# EAGLE library part STM32F439AIH6 (library circuit_tree)
IC
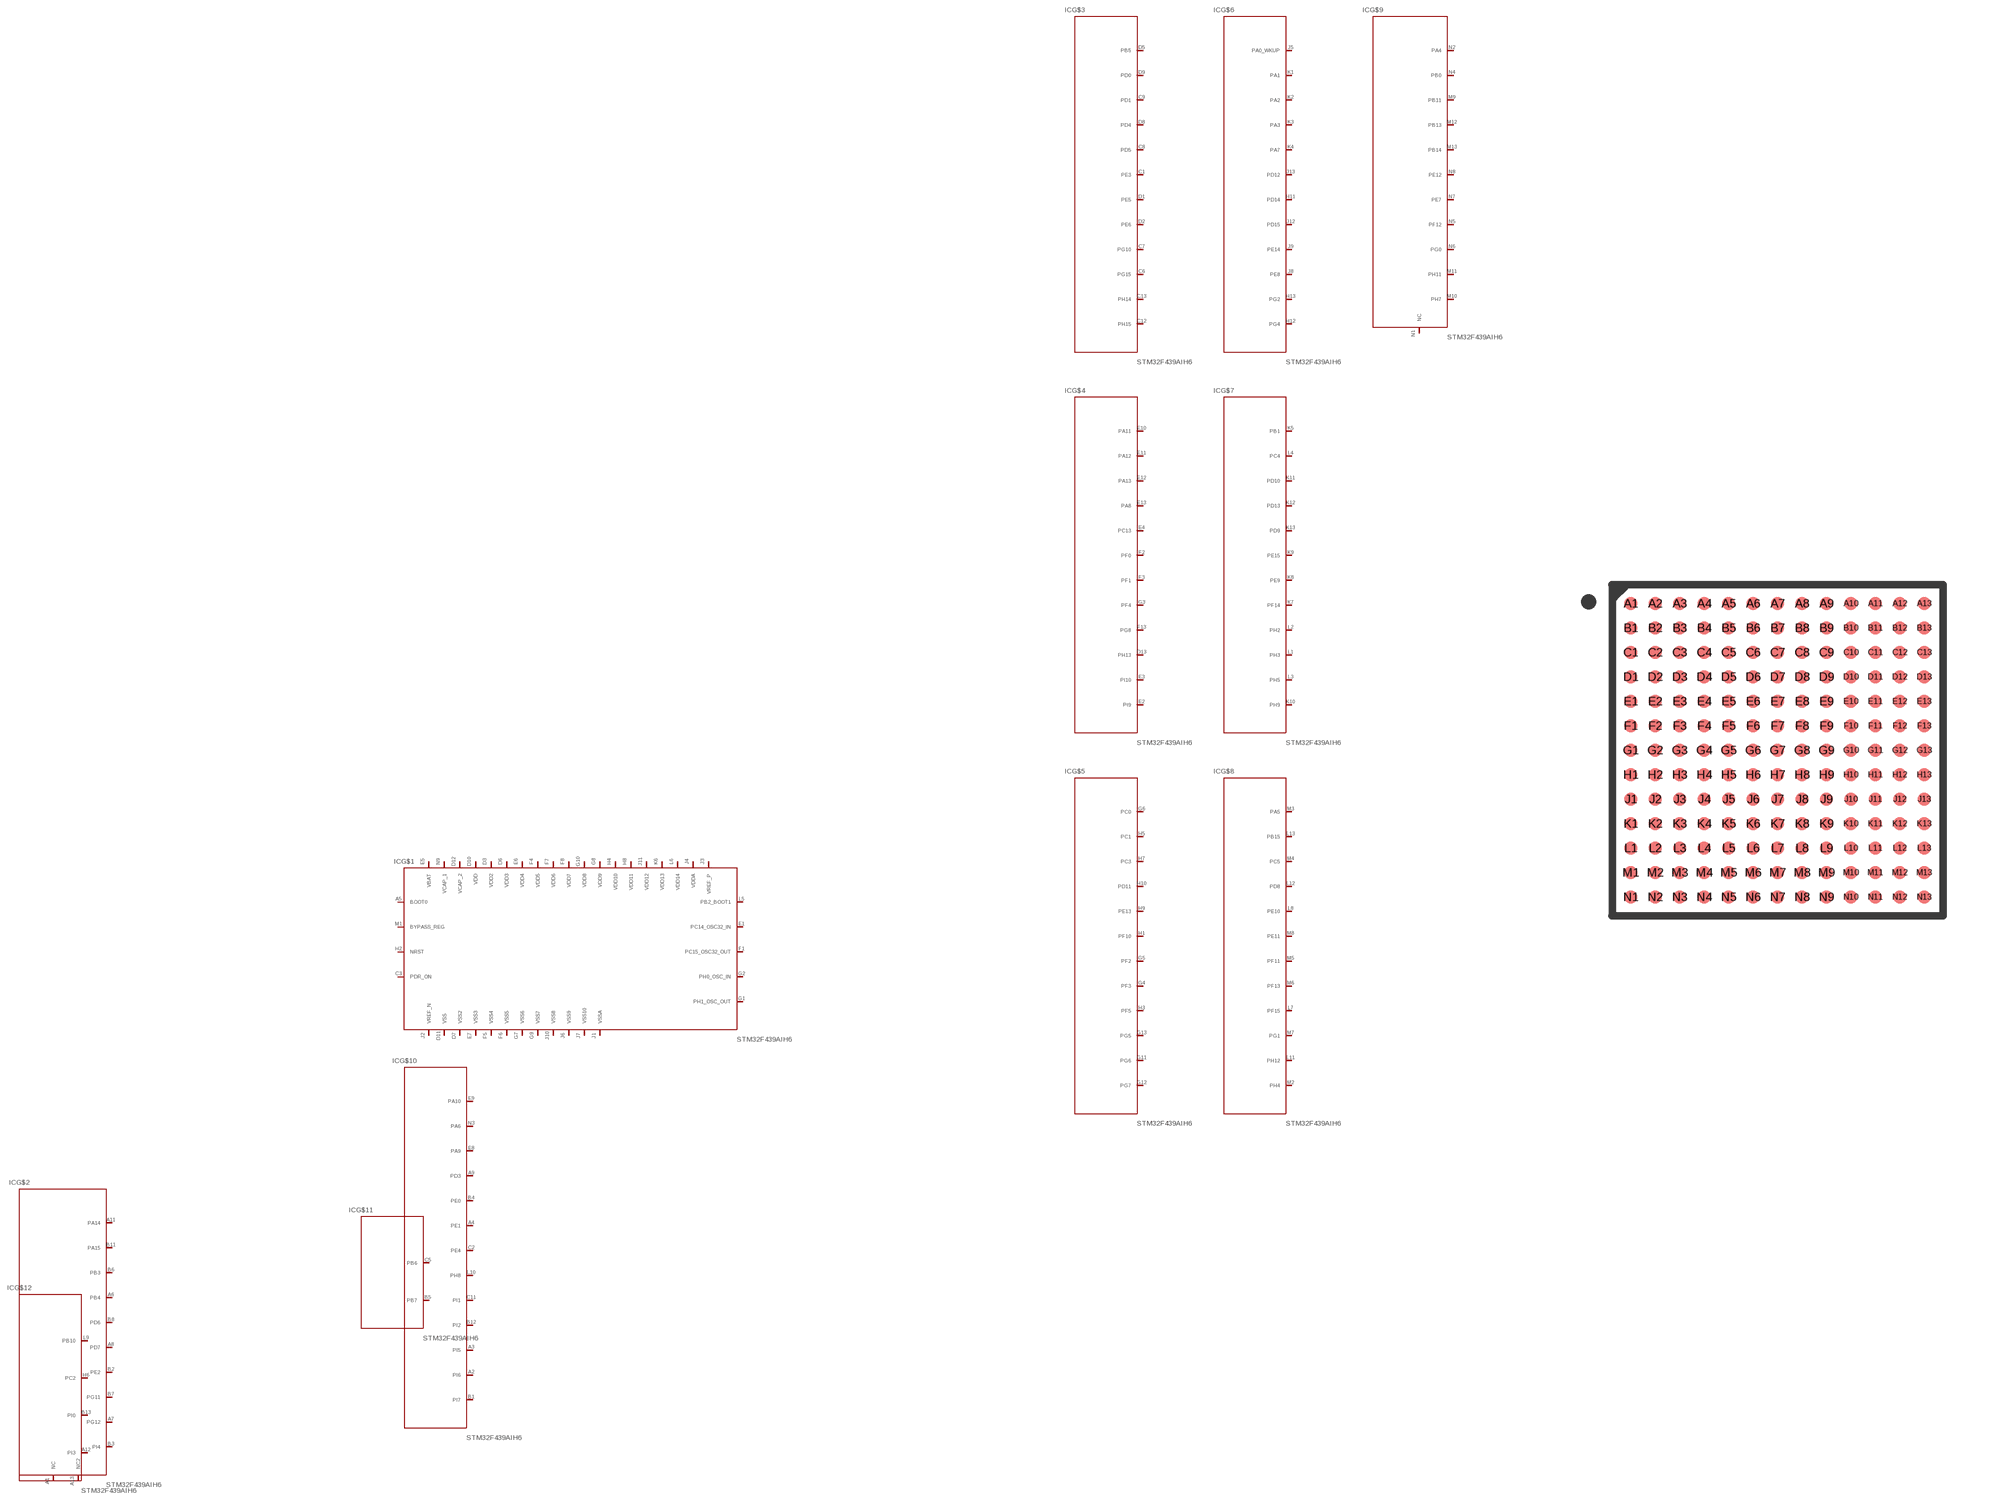
[diagram p8: symbol with the pads of UFBGA169; footprint UFBGA169]

Designator prefix IC; gates G$1=STM32F439AIH6 G$2=STM32F439AIH62 G$3=STM32F439AIH63 G$4=STM32F439AIH64 G$5=STM32F439AIH65 G$6=STM32F439AIH66 G$7=STM32F439AIH67 G$8=STM32F439AIH68 G$9=STM32F439AIH69 G$10=STM32F439AIH610 G$11=STM32F439AIH611 G$12=STM32F439AIH612

## STM32F439AIH6  [UFBGA169]
A1  G$2:NC  pas
A2  G$10:PI6  pas
A3  G$10:PI5  pas
A4  G$10:PE1  pas
A5  G$1:BOOT0  pas
A6  G$2:PB4  pas
A7  G$2:PG12  pas
A8  G$2:PD7  pas
A9  G$10:PD3  pas
A11  G$2:PA14  pas
A12  G$12:PI3  pas
A13  G$2:NC2  pas
B1  G$10:PI7  pas
B2  G$2:PE2  pas
B3  G$2:PI4  pas
B4  G$10:PE0  pas
B5  G$11:PB7  pas
B6  G$2:PB3  pas
B7  G$2:PG11  pas
B8  G$2:PD6  pas
B11  G$2:PA15  pas
B12  G$10:PI2  pas
B13  G$12:PI0  pas
C1  G$3:PE3  pas
C2  G$10:PE4  pas
C3  G$1:PDR_ON  pas
C5  G$11:PB6  pas
C6  G$3:PG15  pas
C7  G$3:PG10  pas
C8  G$3:PD5  pas
C9  G$3:PD1  pas
C11  G$10:PI1  pas
C12  G$3:PH15  pas
C13  G$3:PH14  pas
D1  G$3:PE5  pas
D2  G$3:PE6  pas
D3  G$1:VDD2  pas
D5  G$3:PB5  pas
D6  G$1:VDD3  pas
D7  G$1:VSS2  pas
D8  G$3:PD4  pas
D9  G$3:PD0  pas
D10  G$1:VDD  pas
D11  G$1:VSS  pas
D12  G$1:VCAP_2  pas
D13  G$4:PH13  pas
E1  G$1:PC14_OSC32_IN  pas
E2  G$4:PI9  pas
E3  G$4:PI10  pas
E4  G$4:PC13  pas
E5  G$1:VBAT  pas
E6  G$1:VDD4  pas
E7  G$1:VSS3  pas
E8  G$10:PA9  pas
E9  G$10:PA10  pas
E10  G$4:PA11  pas
E11  G$4:PA12  pas
E12  G$4:PA13  pas
E13  G$4:PA8  pas
F1  G$1:PC15_OSC32_OUT  pas
F2  G$4:PF0  pas
F3  G$4:PF1  pas
F4  G$1:VDD5  pas
F5  G$1:VSS4  pas
F6  G$1:VSS5  pas
F7  G$1:VDD6  pas
F8  G$1:VDD7  pas
F13  G$4:PG8  pas
G1  G$1:PH1_OSC_OUT  pas
G2  G$1:PH0_OSC_IN  pas
G3  G$4:PF4  pas
G4  G$5:PF3  pas
G5  G$5:PF2  pas
G6  G$5:PC0  pas
G7  G$1:VSS6  pas
G8  G$1:VDD9  pas
G9  G$1:VSS7  pas
G10  G$1:VDD8  pas
G11  G$5:PG6  pas
G12  G$5:PG7  pas
G13  G$5:PG5  pas
H1  G$5:PF10  pas
H2  G$1:NRST  pas
H3  G$5:PF5  pas
H4  G$1:VDD10  pas
H5  G$5:PC1  pas
H6  G$12:PC2  pas
H7  G$5:PC3  pas
H8  G$1:VDD11  pas
H9  G$5:PE13  pas
H10  G$5:PD11  pas
H11  G$6:PD14  pas
H12  G$6:PG4  pas
H13  G$6:PG2  pas
J1  G$1:VSSA  pas
J2  G$1:VREF_N  pas
J3  G$1:VREF_P  pas
J4  G$1:VDDA  pas
J5  G$6:PA0_WKUP  pas
J6  G$1:VSS9  pas
J7  G$1:VSS10  pas
J8  G$6:PE8  pas
J9  G$6:PE14  pas
J10  G$1:VSS8  pas
J11  G$1:VDD12  pas
J12  G$6:PD15  pas
J13  G$6:PD12  pas
K1  G$6:PA1  pas
K2  G$6:PA2  pas
K3  G$6:PA3  pas
K4  G$6:PA7  pas
K5  G$7:PB1  pas
K6  G$1:VDD13  pas
K7  G$7:PF14  pas
K8  G$7:PE9  pas
K9  G$7:PE15  pas
K10  G$7:PH9  pas
K11  G$7:PD10  pas
K12  G$7:PD13  pas
K13  G$7:PD9  pas
L1  G$7:PH3  pas
L2  G$7:PH2  pas
L3  G$7:PH5  pas
L4  G$7:PC4  pas
L5  G$1:PB2_BOOT1  pas
L6  G$1:VDD14  pas
L7  G$8:PF15  pas
L8  G$8:PE10  pas
L9  G$12:PB10  pas
L10  G$10:PH8  pas
L11  G$8:PH12  pas
L12  G$8:PD8  pas
L13  G$8:PB15  pas
M1  G$1:BYPASS_REG  pas
M2  G$8:PH4  pas
M3  G$8:PA5  pas
M4  G$8:PC5  pas
M5  G$8:PF11  pas
M6  G$8:PF13  pas
M7  G$8:PG1  pas
M8  G$8:PE11  pas
M9  G$9:PB11  pas
M10  G$9:PH7  pas
M11  G$9:PH11  pas
M12  G$9:PB13  pas
M13  G$9:PB14  pas
N1  G$9:NC  pas
N2  G$9:PA4  pas
N3  G$10:PA6  pas
N4  G$9:PB0  pas
N5  G$9:PF12  pas
N6  G$9:PG0  pas
N7  G$9:PE7  pas
N8  G$9:PE12  pas
N9  G$1:VCAP_1  pas

## Footprint UFBGA169 (pad centres in mm)
smd 0.35 x 0.35: A1 -3.9,3.9; A2 -3.25,3.9; A3 -2.6,3.9; A4 -1.95,3.9; A5 -1.3,3.9; A6 -0.65,3.9; A7 0,3.9; A8 0.65,3.9; A9 1.3,3.9; A10 1.95,3.9; A11 2.6,3.9; A12 3.25,3.9; A13 3.9,3.9; B1 -3.9,3.25; B2 -3.25,3.25; B3 -2.6,3.25; B4 -1.95,3.25; B5 -1.3,3.25; B6 -0.65,3.25; B7 0,3.25; B8 0.65,3.25; B9 1.3,3.25; B10 1.95,3.25; B11 2.6,3.25; B12 3.25,3.25; B13 3.9,3.25; C1 -3.9,2.6; C2 -3.25,2.6; C3 -2.6,2.6; C4 -1.95,2.6; C5 -1.3,2.6; C6 -0.65,2.6; C7 0,2.6; C8 0.65,2.6; C9 1.3,2.6; C10 1.95,2.6; C11 2.6,2.6; C12 3.25,2.6; C13 3.9,2.6; D1 -3.9,1.95; D2 -3.25,1.95; D3 -2.6,1.95; D4 -1.95,1.95; D5 -1.3,1.95; D6 -0.65,1.95; D7 0,1.95; D8 0.65,1.95; D9 1.3,1.95; D10 1.95,1.95; D11 2.6,1.95; D12 3.25,1.95; D13 3.9,1.95; E1 -3.9,1.3; E2 -3.25,1.3; E3 -2.6,1.3; E4 -1.95,1.3; E5 -1.3,1.3; E6 -0.65,1.3; E7 0,1.3; E8 0.65,1.3; E9 1.3,1.3; E10 1.95,1.3; E11 2.6,1.3; E12 3.25,1.3; E13 3.9,1.3; F1 -3.9,0.65; F2 -3.25,0.65; F3 -2.6,0.65; F4 -1.95,0.65; F5 -1.3,0.65; F6 -0.65,0.65; F7 0,0.65; F8 0.65,0.65; F9 1.3,0.65; F10 1.95,0.65; F11 2.6,0.65; F12 3.25,0.65; F13 3.9,0.65; G1 -3.9,0; G2 -3.25,0; G3 -2.6,0; G4 -1.95,0; G5 -1.3,0; G6 -0.65,0; G7 0,0; G8 0.65,0; G9 1.3,0; G10 1.95,0; G11 2.6,0; G12 3.25,0; G13 3.9,0; H1 -3.9,-0.65; H2 -3.25,-0.65; H3 -2.6,-0.65; H4 -1.95,-0.65; H5 -1.3,-0.65; H6 -0.65,-0.65; H7 0,-0.65; H8 0.65,-0.65; H9 1.3,-0.65; H10 1.95,-0.65; H11 2.6,-0.65; H12 3.25,-0.65; H13 3.9,-0.65; J1 -3.9,-1.3; J2 -3.25,-1.3; J3 -2.6,-1.3; J4 -1.95,-1.3; J5 -1.3,-1.3; J6 -0.65,-1.3; J7 0,-1.3; J8 0.65,-1.3; J9 1.3,-1.3; J10 1.95,-1.3; J11 2.6,-1.3; J12 3.25,-1.3; J13 3.9,-1.3; K1 -3.9,-1.95; K2 -3.25,-1.95; K3 -2.6,-1.95; K4 -1.95,-1.95; K5 -1.3,-1.95; K6 -0.65,-1.95; K7 0,-1.95; K8 0.65,-1.95; K9 1.3,-1.95; K10 1.95,-1.95; K11 2.6,-1.95; K12 3.25,-1.95; K13 3.9,-1.95; L1 -3.9,-2.6; L2 -3.25,-2.6; L3 -2.6,-2.6; L4 -1.95,-2.6; L5 -1.3,-2.6; L6 -0.65,-2.6; L7 0,-2.6; L8 0.65,-2.6; L9 1.3,-2.6; L10 1.95,-2.6; L11 2.6,-2.6; L12 3.25,-2.6; L13 3.9,-2.6; M1 -3.9,-3.25; M2 -3.25,-3.25; M3 -2.6,-3.25; M4 -1.95,-3.25; M5 -1.3,-3.25; M6 -0.65,-3.25; M7 0,-3.25; M8 0.65,-3.25; M9 1.3,-3.25; M10 1.95,-3.25; M11 2.6,-3.25; M12 3.25,-3.25; M13 3.9,-3.25; N1 -3.9,-3.9; N2 -3.25,-3.9; N3 -2.6,-3.9; N4 -1.95,-3.9; N5 -1.3,-3.9; N6 -0.65,-3.9; N7 0,-3.9; N8 0.65,-3.9; N9 1.3,-3.9; N10 1.95,-3.9; N11 2.6,-3.9; N12 3.25,-3.9; N13 3.9,-3.9